# Altium footprint library MiniCircuits.PcbLib: 49 footprints (part 1 of 4)
Each footprint in its own frame and in the unit in brackets; x right, y up, seen from the top. Pads: shape width x height; smd on the part's side, far side on the other; paste and mask are expansions set on the pad; w line width, h text height; cw(c..) or ccw(c..) is an arc to the next point about the centre after c.
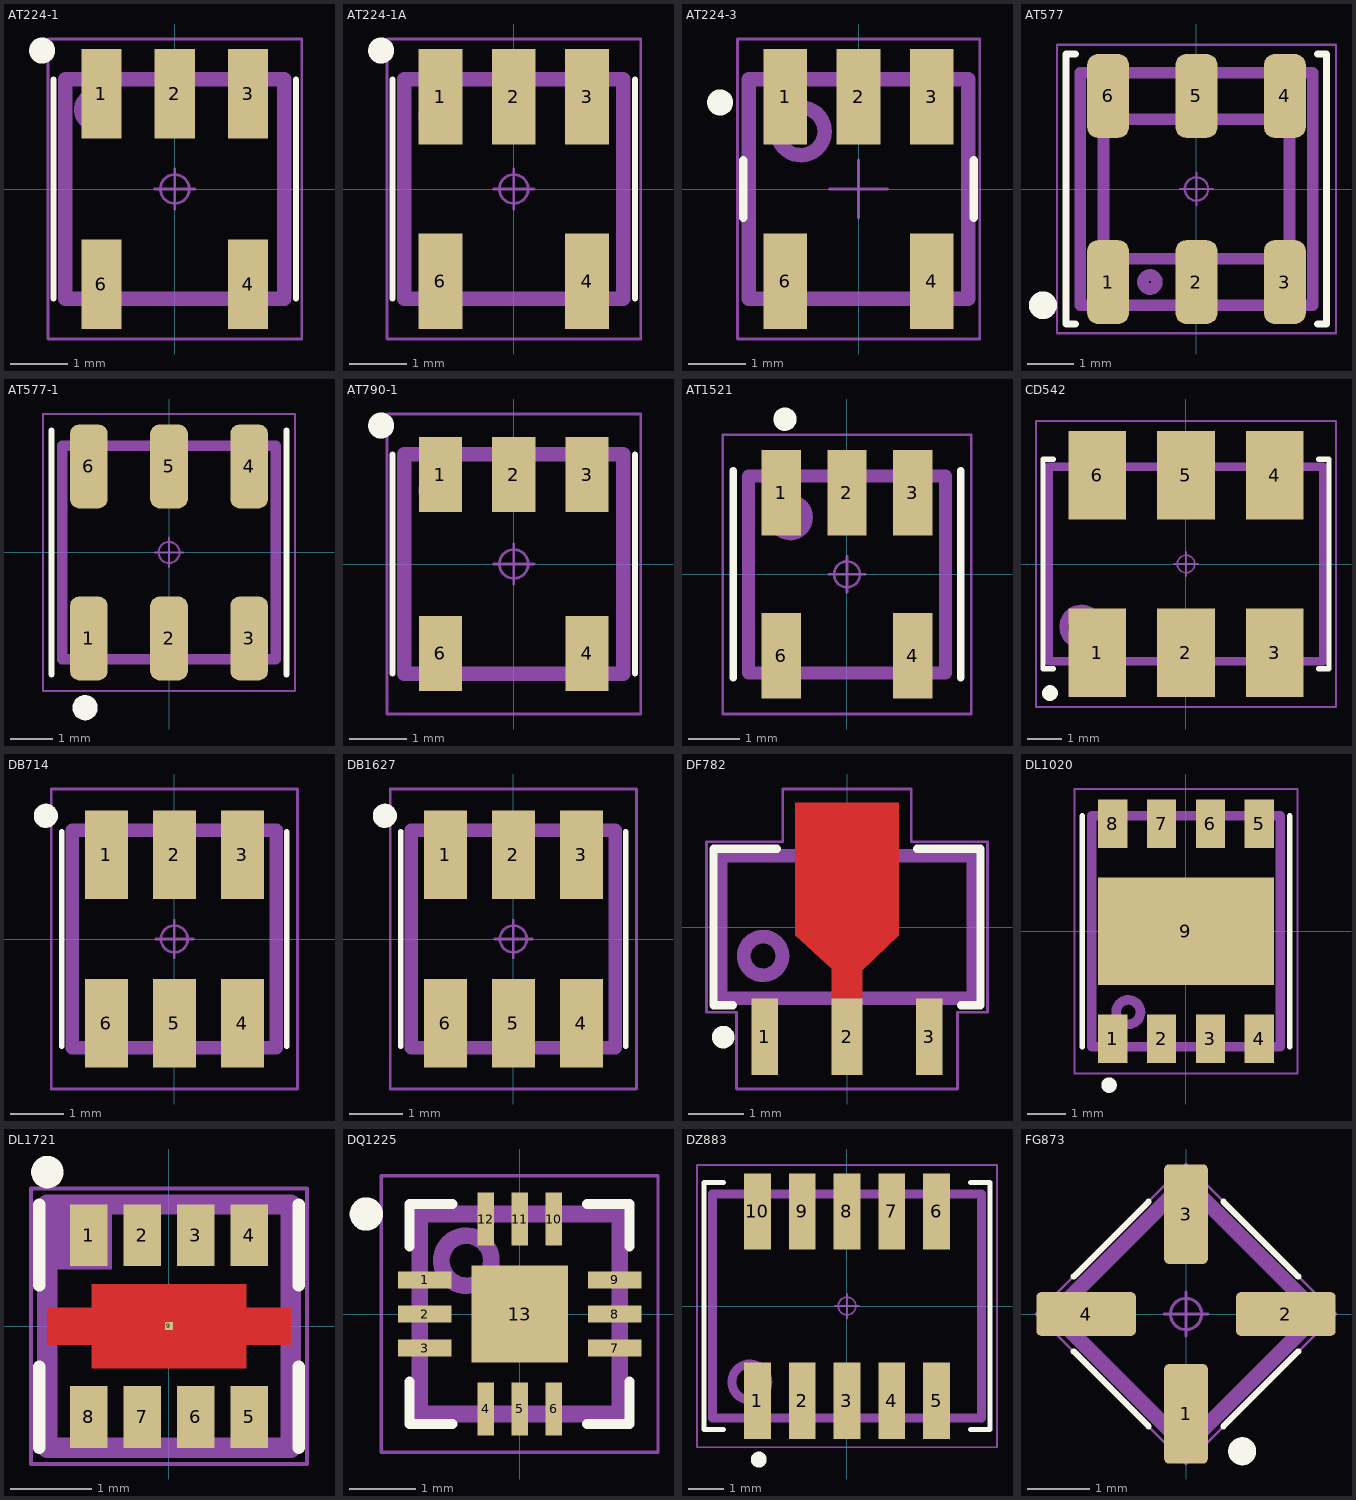
[diagram p0: the footprints below, top view; thin cyan lines are the x and y axes]

## AT224-1 [mm] "Mini-Circuirts case AT224-1"
height 4.06
pads (5):
  rect 0.7x1.55 smd: 1(-1.27,1.65) 2(0,1.65) 3(1.27,1.65) 4(1.27,-1.65) 6(-1.27,-1.65)
Top Overlay:
  circle w0.25: c-2.3,2.4 r0.1
  lines w0.1: -2.1,-1.9 -2.1,1.9 ; 2.1,-1.9 2.1,1.9
Top Assembly:
  circle w0.25: c-1.375,1.375 r0.25
  lines w0.25: 1.9,-1.9 1.9,1.9 ; 1.9,-1.9 1.9,-1.9 ; 1.9,-1.9 -1.9,-1.9 -1.9,1.9 1.9,1.9 ; 1.9,1.9 1.9,1.9
  text ".Designator" at -1.625,-0.407 h1.5
Top Courtyard:
  circle w0.05: c0,0 r0.25
  lines w0.05: -0.35,0 0.35,0 ; 0,-0.35 0,0.35 ; -2.2,-2.6 -2.2,2.6 2.2,2.6 2.2,-2.6 -2.2,-2.6
3D body "CASE AT224-1.STEP": height 4.06, standoff 0, extent -1.905,-1.955 1.905,1.955

## AT224-1A [mm] "Mini-Circuirts case AT224-1A"
height 4.06
pads (5):
  rect 0.76x1.65 smd: 1(-1.27,1.6) 2(0,1.6) 3(1.27,1.6) 4(1.27,-1.6) 6(-1.27,-1.6)
Top Overlay:
  circle w0.25: c-2.3,2.4 r0.1
  lines w0.1: -2.1,-1.9 -2.1,1.9 ; 2.1,-1.9 2.1,1.9
Top Assembly:
  circle w0.25: c-1.275,1.275 r0.25
  lines w0.25: 1.9,-1.9 -1.9,-1.9 -1.9,1.9 1.9,1.9 ; 1.9,-1.9 1.9,-1.9 ; 1.9,-1.9 1.9,1.9 ; 1.9,1.9 1.9,1.9
  text ".Designator" at -1.648,-0.406 h1.5
Top Courtyard:
  circle w0.05: c0,0 r0.25
  lines w0.05: -0.35,0 0.35,0 ; 0,-0.35 0,0.35 ; -2.2,-2.6 2.2,-2.6 2.2,2.6 -2.2,2.6 -2.2,-2.6
3D body "CASE AT224-1.STEP": height 4.06, standoff 0, extent -1.905,-1.955 1.905,1.955

## AT224-3 [mm] "Mini-Circuirts case A224-3"
height 3.81
pads (5):
  rect 0.76x1.65 smd: 1(-1.27,1.6) 2(0,1.6) 3(1.27,1.6) 4(1.27,-1.6) 6(-1.27,-1.6)
Top Overlay:
  circle w0.25: c-2.4,1.5 r0.1
  lines w0.15: -2,-0.5 -2,0.5 ; 2,-0.5 2,0.5
Top Assembly:
  circle w0.25: c-1,1 r0.412
  lines w0.25: -1.905,-1.905 1.905,-1.905 1.905,1.905 -1.905,1.905 -1.905,-1.905
  text ".Designator" at -1.1,-0.518 h1.5
Top Courtyard:
  lines w0.05: -0.5,0 0.5,0 ; 0,-0.5 0,0.5 ; -2.1,-2.6 2.1,-2.6 2.1,2.6 -2.1,2.6 -2.1,-2.6
3D body "CASE AT224-3.STEP": height 3.81, standoff 0, extent -1.905,-1.955 1.905,1.955

## AT577 [mm] "Mini-Circuirts case AT577"
height 5.08
pads (6):
  rrect50% 0.9x1.8 smd: 1(-1.9,-2) 2(0,-2) 3(1.9,-2) 4(1.9,2) 5(0,2) 6(-1.9,2)
Top Overlay:
  circle w0.3: c-3.3,-2.5 r0.15
  lines w0.15: -2.6,-2.9 -2.8,-2.9 -2.8,2.9 -2.6,2.9 ; 2.6,-2.9 2.8,-2.9 2.8,2.9 2.6,2.9
Top Assembly:
  circle w0.25: c-1,-2 r0.15
  lines w0.25: -2.5,-2.5 -2.5,2.5 2.5,2.5 2.5,-2.5 -2.5,-2.5 ; -2,-1.5 -2,1.5 2,1.5 2,-1.5 -2,-1.5
  text ".Designator" at -1.721,-0.37 h1.5
Top Courtyard:
  circle w0.05: c0,0 r0.25
  lines w0.05: -0.35,0 0.35,0 ; 0,-0.35 0,0.35 ; -3,-3.1 -3,3.1 3,3.1 3,-3.1 -3,-3.1
3D body "MiniCircuits_CASE AT577.step": height 5.13, standoff 0, extent -2.54,-2.59 2.54,2.59

## AT577-1 [mm] "Mini-Circuirts case AT577-1"
height 3.81
pads (6):
  rrect50% 0.9x2 smd: 1(-1.91,-2.05) 2(0,-2.05) 3(1.91,-2.05) 4(1.91,2.05) 5(0,2.05) 6(-1.91,2.05)
Top Overlay:
  circle w0.3: c-2,-3.7 r0.15
  lines w0.15: -2.8,-2.9 -2.8,2.9 ; 2.8,-2.9 2.8,2.9
Top Assembly:
  circle w0.25: c-1.8,-1.8 r0.15
  lines w0.25: -2.54,-2.54 2.54,-2.54 2.54,2.54 -2.54,2.54 -2.54,-2.54
  text ".Designator" at -3.378,-0.339 h1.5
Top Courtyard:
  circle w0.05: c0,0 r0.25
  lines w0.05: -0.35,0 0.35,0 ; 0,-0.35 0,0.35 ; -3,-3.3 -3,3.3 3,3.3 3,-3.3 -3,-3.3
3D body "CASE AT577-1.STEP": height 3.81, standoff 0, extent -2.54,-2.55 2.54,2.55

## AT790-1 [mm] "Mini-Circuirts case AT790-1"
height 3.81
pads (5):
  rect 0.75x1.3 smd: 1(-1.27,1.55) 2(0,1.55) 3(1.27,1.55) 4(1.27,-1.55) 6(-1.27,-1.55)
Top Overlay:
  circle w0.25: c-2.3,2.4 r0.1
  lines w0.1: -2.1,-1.9 -2.1,1.9 ; 2.1,-1.9 2.1,1.9
Top Assembly:
  circle w0.25: c-1.275,1.275 r0.25
  lines w0.25: 1.9,-1.9 1.9,1.9 ; 1.9,-1.9 1.9,-1.9 ; 1.9,-1.9 -1.9,-1.9 -1.9,1.9 1.9,1.9 ; 1.9,1.9 1.9,1.9
  text ".Designator" at -1.648,-0.332 h1.5
Top Courtyard:
  circle w0.05: c0,0 r0.25
  lines w0.05: -0.35,0 0.35,0 ; 0,-0.35 0,0.35 ; -2.2,-2.6 -2.2,2.6 2.2,2.6 2.2,-2.6 -2.2,-2.6
3D body "CASE AT790-1.STEP": height 3.81, standoff 0, extent -1.905,-1.905 1.905,1.905

## AT1521 [mm] "Mini-Circuirts case AT1521"
height 4.06
pads (5):
  rect 0.76x1.65 smd: 1(-1.27,1.575) 2(0,1.575) 3(1.27,1.575) 4(1.27,-1.575) 6(-1.27,-1.575)
Top Overlay:
  circle w0.25: c-1.2,3 r0.1
  lines w0.15: -2.2,-2 -2.2,2 ; 2.2,-2 2.2,2
Top Assembly:
  circle w0.25: c-1.1,1.1 r0.316
  lines w0.25: -1.905,-1.905 -1.905,1.905 1.905,1.905 1.905,-1.905 -1.905,-1.905
  text ".Designator" at -3.378,-0.339 h1.5
Top Courtyard:
  circle w0.05: c0,0 r0.25
  lines w0.05: -0.35,0 0.35,0 ; 0,-0.35 0,0.35 ; -2.4,-2.7 2.4,-2.7 2.4,2.7 -2.4,2.7 -2.4,-2.7
3D body "CASE AT1521.STEP": height 4.06, standoff 0, extent -1.905,-1.905 1.905,1.905

## CD542 [mm] "Mini-Circuirts case CD542"
height 2.84
pads (6):
  rect 1.65x2.54 smd: 1(-2.54,-2.54) 2(0,-2.54) 3(2.54,-2.54) 4(2.54,2.54) 5(0,2.54) 6(-2.54,2.54)
Top Overlay:
  circle w0.25: c-3.9,-3.7 r0.1
  lines w0.15: -3.8,-3 -4.1,-3 -4.1,3 -3.8,3 ; 3.8,-3 4.1,-3 4.1,3 3.8,3
Top Assembly:
  circle w0.25: c-3,-1.8 r0.51
  lines w0.25: -3.935,-2.79 3.935,-2.79 3.935,2.79 -3.935,2.79 -3.935,-2.79
  text ".Designator" at -3.378,-0.339 h1.5
Top Courtyard:
  circle w0.05: c0,0 r0.25
  lines w0.05: -0.35,0 0.35,0 ; 0,-0.35 0,0.35 ; -4.3,-4.1 4.3,-4.1 4.3,4.1 -4.3,4.1 -4.3,-4.1
3D body "CASE CD542.STEP": height 2.84, standoff 0, extent -3.935,-3.455 3.935,3.455

## DB714 [mm] "Mini-Circuirts case DB714"
height 4.1
pads (6):
  rect 0.8x1.65 smd: 1(-1.27,1.575) 2(0,1.575) 3(1.27,1.575) 4(1.27,-1.575) 5(0,-1.575) 6(-1.27,-1.575)
Top Overlay:
  circle w0.25: c-2.4,2.3 r0.1
  lines w0.1: -2.1,-2 -2.1,2 ; 2.1,-2 2.1,2
Top Assembly:
  lines w0.25: -1.905,-2.03 1.905,-2.03 1.905,2.03 -1.905,2.03 -1.905,-2.03
  text ".Designator" at -1.648,-0.435 h1.5
Top Courtyard:
  circle w0.05: c0,0 r0.25
  lines w0.05: -0.35,0 0.35,0 ; 0,-0.35 0,0.35 ; -2.3,-2.8 2.3,-2.8 2.3,2.8 -2.3,2.8 -2.3,-2.8
3D body "CASE DB714.STEP": height 4.06, standoff 0, extent -1.905,-2.03 1.905,2.03

## DB1627 [mm] "Mini-Circuirts case DB1627"
height 4.1
pads (6):
  rect 0.8x1.65 smd: 1(-1.27,1.575) 2(0,1.575) 3(1.27,1.575) 4(1.27,-1.575) 5(0,-1.575) 6(-1.27,-1.575)
Top Overlay:
  circle w0.25: c-2.4,2.3 r0.1
  lines w0.1: -2.1,-2 -2.1,2 ; 2.1,-2 2.1,2
Top Assembly:
  lines w0.25: -1.905,-2.03 -1.905,2.03 1.905,2.03 1.905,-2.03 -1.905,-2.03
  text ".Designator" at -1.638,-0.371 h1.5
Top Courtyard:
  circle w0.05: c0,0 r0.25
  lines w0.05: -0.35,0 0.35,0 ; 0,-0.35 0,0.35 ; -2.3,-2.8 -2.3,2.8 2.3,2.8 2.3,-2.8 -2.3,-2.8
3D body "CASE DB1627.STEP": height 4.06, standoff 0, extent -1.905,-2.03 1.905,2.03

## DF782 [mil] "Mini-Circuits case DF782"
height 62.99
pads (3):
  rect 19x54.87 smd: 1(-59,-78.44) 3(59,-78.44)
  rect 22x54.87 smd: 2(0,-78.44)
Top Layer:
  region: 11,-51 -11,-51 -11,-30 -36.98,-5.98 -36.98,88.78 36.98,88.78 36.98,-5.98 11,-30.98
Top Overlay:
  circle w8.27: c-88.58,-78.74 r3.94
  lines w5.91: -81.6,-56 -95.5,-56 -95.5,56 -50.08,56 ; 50.08,56 95.5,56 95.5,-56 81.6,-56
Top Assembly:
  circle w9.84: c-60.04,-20.67 r13.81
  lines w9.84: -68.5,-51 -49.5,-51 ; -11,-51 11,-51 ; 49.5,-51 68.5,-51 ; -90.5,-51 -90.5,51 90.5,51 90.5,-51 -90.5,-51
  text ".Designator" at -37.7,-27.7 h59.06
Top Courtyard:
  circle w1.97: c0,0 r9.84
  lines w1.97: -13.78,0 13.78,0 ; 0,-13.78 0,13.78 ; -100.5,-61 -100.5,61 -46,61 -46,98.78 46,98.78 46,61 100.5,61 100.5,-61 79,-61 79,-115.87 -79,-115.87 -79,-61 -100.5,-61
3D body "DF782_MNC.step": height 65.12, standoff 0, extent -90.51,-97.99 90.52,75

## DL1020 [mm] "Mini-Circuits case DL1020"
height 0.9
pads (9):
  rect 0.76x1.27 smd: 1(-1.905,-2.795) 2(-0.635,-2.795) 3(0.635,-2.795) 4(1.905,-2.795) 5(1.905,2.795) 6(0.635,2.795) 7(-0.635,2.795) 8(-1.905,2.795)
  rect 4.57x2.79 smd: 9(0,0)
Top Overlay:
  circle w0.2: c-2,-4 r0.1
  lines w0.15: -2.7,-3 -2.7,3 ; 2.7,-3 2.7,3
Top Assembly:
  circle w0.25: c-1.5,-2.1 r0.316
  lines w0.25: -2.45,-3 2.45,-3 2.45,3 -2.45,3 -2.45,-3
  text ".Designator" at -3.378,-0.339 h1.5
Top Courtyard:
  circle w0.05: c0,0 r0.25
  lines w0.05: -0.35,0 0.35,0 ; 0,-0.35 0,0.35 ; -2.9,-3.7 2.9,-3.7 2.9,3.7 -2.9,3.7 -2.9,-3.7
3D body "CASE DL1020.STEP": height 0.9, standoff 0, extent -2.45,-3.05 2.45,3.05

## DL1721 [mm] "Mini-Circuits case DL1721"
height 1.14
pads (9):
  rect 0.46x0.76 smd: 1(-0.99,1.12) 2(-0.33,1.12) 3(0.33,1.12) 4(0.99,1.12) 5(0.99,-1.12) 6(0.33,-1.12) 7(-0.33,-1.12) 8(-0.99,-1.12)
  rect 0.1x0.1 smd: 9(0,0)
Top Layer:
  region: -1.5,0.23 -0.955,0.23 -0.955,0.52 0.955,0.52 0.955,0.23 1.5,0.23 1.5,-0.23 0.955,-0.23 0.955,-0.52 -0.955,-0.52 -0.955,-0.23 -1.5,-0.23
Top Overlay:
  circle w0.2: c-1.5,1.9 r0.1
  lines w0.15: -1.6,-1.5 -1.6,-0.5 ; -1.6,0.5 -1.6,1.5 ; 1.6,-1.5 1.6,-0.5 ; 1.6,0.5 1.6,1.5
Top Assembly:
  rectangle: -1.5,0.7 -0.7,1.5
  lines w0.25: -1.5,-1.5 -1.5,1.5 1.5,1.5 1.5,-1.5 -1.5,-1.5
  text ".Designator" at -1.2,-0.518 h1.5
Top Courtyard:
  circle w0.05: c0,0 r0.35
  lines w0.05: -0.5,0 0.5,0 ; 0,-0.5 0,0.5 ; -1.7,-1.7 1.7,-1.7 1.7,1.7 -1.7,1.7 -1.7,-1.7
3D body "CASE DL1721.STEP": height 1.14, standoff 0, extent -1.5,-1.5 1.5,1.5

## DQ1225 [mm] "Mini-Circuits case DQ1225"
height 1
pads (13):
  rect 0.8x0.25 smd: 1(-1.425,0.51) 2(-1.425,0) 3(-1.425,-0.51) 7(1.425,-0.51) 8(1.425,0) 9(1.425,0.51)
  rect 0.25x0.8 smd: 4(-0.51,-1.425) 5(0,-1.425) 6(0.51,-1.425) 10(0.51,1.425) 11(0,1.425) 12(-0.51,1.425)
  rect 1.45x1.45 smd: 13(0,0)
Top Overlay:
  circle w0.25: c-2.3,1.5 r0.125
  lines w0.15: -1.65,-1.01 -1.65,-1.65 -1.01,-1.65 ; -1.65,1.01 -1.65,1.65 -1.01,1.65 ; 1.01,-1.65 1.65,-1.65 1.65,-1.01 ; 1.01,1.65 1.65,1.65 1.65,1.01
Top Assembly:
  circle w0.25: c-0.8,0.8 r0.376
  lines w0.25: -1.5,-1.5 1.5,-1.5 1.5,1.5 -1.5,1.5 -1.5,-1.5
  text ".Designator" at -3.378,-0.339 h1.5
Top Courtyard:
  lines w0.05: -2.075,-2.075 2.075,-2.075 2.075,2.075 -2.075,2.075 -2.075,-2.075
  lines w0.1: -0.5,0 0.5,0 ; 0,-0.5 0,0.5
3D body "QFN51P300X300X100_HS-13N.step": height 1, standoff 0, extent -1.501,-1.501 1.501,1.501

## DZ883 [mm] "Mini-Circuits case DZ883"
height 4.83
pads (10):
  rect 0.76x2.16 smd: 1(-2.54,-2.68) 2(-1.27,-2.68) 3(0,-2.68) 4(1.27,-2.68) 5(2.54,-2.68) 6(2.54,2.68) 7(1.27,2.68) 8(0,2.68) 9(-1.27,2.68) 10(-2.54,2.68)
Top Overlay:
  circle w0.25: c-2.5,-4.35 r0.1
  lines w0.15: -3.5,-3.5 -4.05,-3.5 -4.05,3.5 -3.5,3.5 ; 3.5,-3.5 4.05,-3.5 4.05,3.5 3.5,3.5
Top Assembly:
  circle w0.25: c-2.75,-2.15 r0.51
  lines w0.25: -3.81,-3.175 3.81,-3.175 3.81,3.175 -3.81,3.175 -3.81,-3.175
  text ".Designator" at -3.378,-0.339 h1.5
Top Courtyard:
  circle w0.05: c0,0 r0.25
  lines w0.05: -0.35,0 0.35,0 ; 0,-0.35 0,0.35 ; -4.25,-4 4.25,-4 4.25,4 -4.25,4 -4.25,-4
3D body "CASE DZ883.STEP": height 4.83, standoff 0, extent -3.81,-3.38 3.81,3.38

## FG873 [mm] "Mini-Circuits case FG873"
height 0.89
pads (4):
  rrect23% 0.7x1.6 smd: 1(0,-1.6) 3(0,1.6)
  rrect23% 1.6x0.7 smd: 2(1.6,0) 4(-1.6,0)
Top Overlay:
  circle w0.25: c0.9,-2.2 r0.1
  lines w0.1: -1.8,-0.6 -0.6,-1.8 ; -1.8,0.6 -0.6,1.8 ; 0.6,-1.8 1.8,-0.6 ; 0.6,1.8 1.8,0.6
Top Assembly:
  circle w0.25: c0,-1.3 r0.2
  lines w0.25: -2.121,0 0,2.121 2.121,0 0,-2.121 -2.121,0
  text ".Designator" at -1.433,-0.404 h1.5
Top Courtyard:
  circle w0.05: c0,0 r0.25
  lines w0.05: -0.35,0 0.35,0 ; 0,-0.35 0,0.35 ; -2.404,0 0,2.404 2.404,0 0,-2.404 -2.404,0
3D body "CASE FG873.STEP": height 0.94, standoff 0, extent -2.101,-2.121 2.101,2.08